# Altium footprint library INDPM6965X300N.PcbLib: 1 footprints
Each footprint in its own frame and in the unit in brackets; x right, y up, seen from the top. Pads: shape width x height; smd on the part's side, far side on the other; paste and mask are expansions set on the pad; w line width, h text height; cw(c..) or ccw(c..) is an arc to the next point about the centre after c.
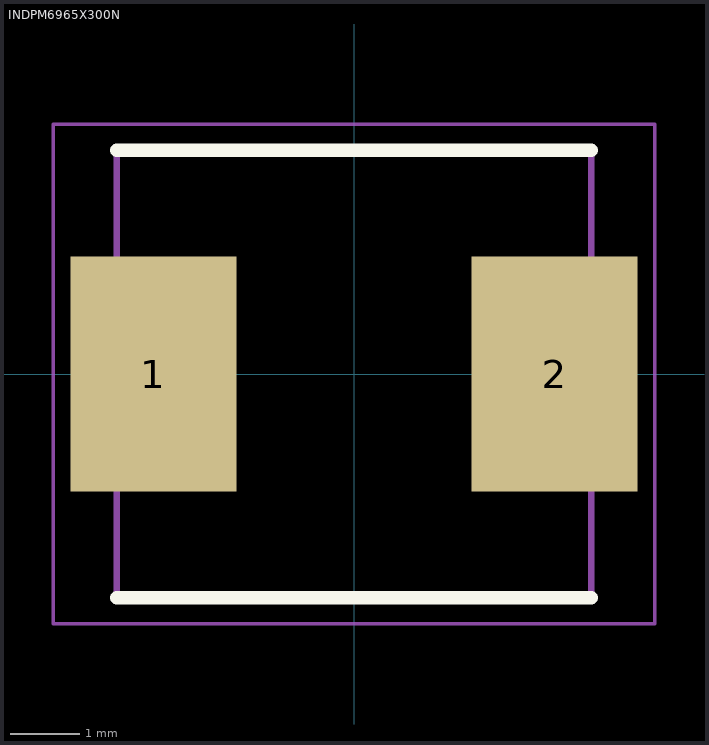
[diagram p0: the footprint, top view; thin cyan lines are the x and y axes]

## INDPM6965X300N [mm]
pads (2):
  rect 2.4x3.4 smd: 1(-2.9,0) 2(2.9,0)
Top Overlay:
  lines w0.2: -3.43,-3.235 3.43,-3.235 ; -3.43,3.235 3.43,3.235
Mechanical 15:
  lines w0.1: -3.43,-3.235 3.43,-3.235 3.43,3.235 -3.43,3.235 -3.43,-3.235
Mechanical 20:
  lines w0.05: -4.35,-3.612 4.35,-3.612 4.35,3.612 -4.35,3.612 -4.35,-3.612